# Altium schematic symbol library KeetV2_1.SCHLIB: 76 symbols (part 1 of 2)
Pins are listed as number, name and electrical type; pins without a type are passive.

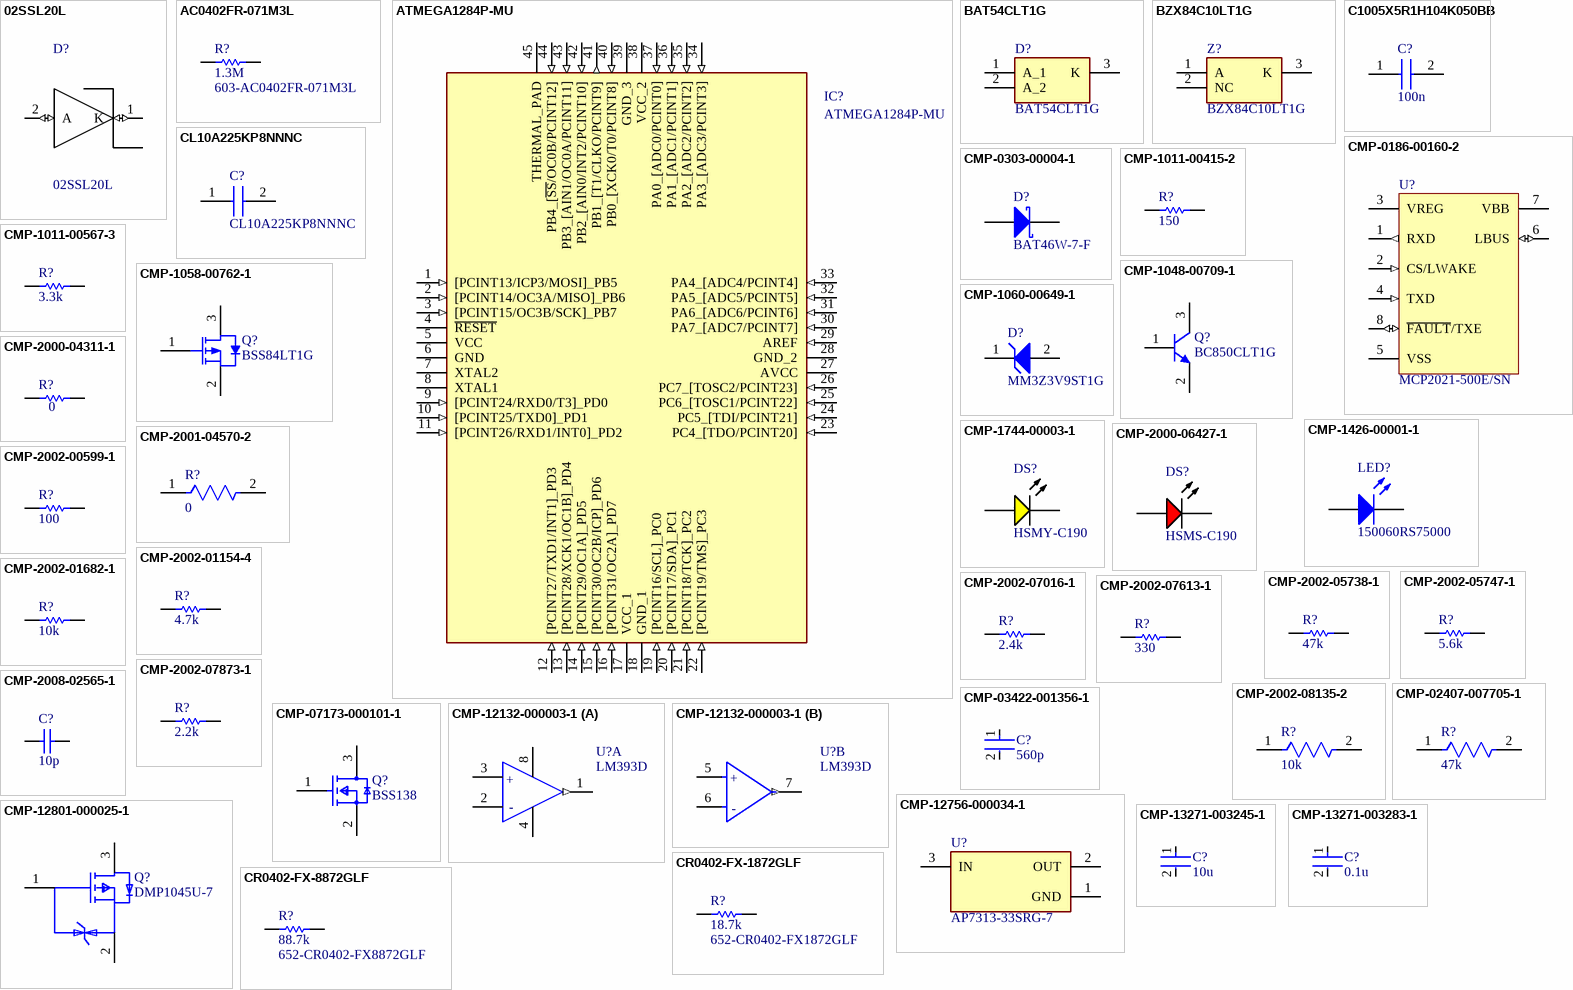
[diagram p0: symbols 02SSL20L to CR0402-FX-8872GLF]

## 02SSL20L
designator D?
SCHOTTKY DIODE https://eu.mouser.com/datasheet/2/345/02ssl20l-02ssl40l-1107799.pdf
footprint SODFL370X100-2N (SODFL, 2-Leads, Body 1,85x3,70mm, IPC Medium Density)
pins: 1 K (io), 2 A (io)

## AC0402FR-071M3L
designator R?, comment 1.3M  Supplier Part Number 1: 603-AC0402FR-071M3L
RES SMD 1.3M OHM 1% 1/16W 0402; Manufacturer: Yageo; Manufacturer Part Number: AC0402FR-071M3L; Resistance: 1.3MR; Max Power Dissipation: 63mW; Temperature Coefficient: 100ppm/°C; Supplier 1: Mouser; RoHS: Yes; Category: Chip SMD Resistors; Stock 1: 49532; Pricing 1: 1=0,10000, 10=0,01700, 50=0,01700, 100=0,00600, 1000=0,00500, 10000=0,00300 (USD); Case/Package: 0402; Min Operating Temperature: -55°C; Max Operating Temperature: 155°C; Packaging: Tape and Reel; Resistor Type: Thick Film; Number of Terminations: 2; Tolerance: 1%; Features: Moisture Resistant,Automotive AEC-Q200; Length: 0.039inch; Width: 0.02inch; Height: 0.015inch; RoHS Compliant: Yes; ComponentLink1URL: http://www.yageo.com/NewPortal/yageodocoutput?fileName=/pdf/R-Chip/PYu-AC_51_RoHS_L_6.pdf&src-supplier=Digi-Key; ComponentLink1Description: http://www.yageo.com/NewPortal/yageodocoutput?fileName=/pdf/R-Chip/PYu-AC_51_RoHS_L_6.pdf&src-supplier=Digi-Key
footprint RESC1005X04N (Chip Resistor, 0402, 2-Leads, Body 1,00x0,50mm, IPC Medium Density)
pins: 1, 2

## ATMEGA1284P-MU
designator IC?
Integrated Circuit; Manufacturer_Name: Microchip; Datasheet Link: http://www.atmel.com/Images/Atmel-8272-8-bit-AVR-microcontroller-ATmega164A_PA-324A_PA-644A_PA-1284_P_datasheet.pdf; Height: 1mm; Manufacturer_Part_Number: ATMEGA1284P-MU; Mouser Part Number: 556-ATMEGA1284P-MU; Mouser Price/Stock: https://www.mouser.co.uk/ProductDetail/Microchip-Technology-Atmel/ATMEGA1284P-MU?qs=K8BHR703ZXga7jaZYyDrdw%3D%3D; Arrow Part Number: ATMEGA1284P-MU; Arrow Price/Stock: https://www.arrow.com/en/products/atmega1284p-mu/microchip-technology
footprint QFN50P700X700X100-45N-D
pins: 1 [PCINT13/ICP3/MOSI]_PB5 (in), 2 [PCINT14/OC3A/MISO]_PB6 (in), 3 [PCINT15/OC3B/SCK]_PB7 (in), 4 ~{RESET}, 5 VCC (power), 6 GND (power), 7 XTAL2, 8 XTAL1, 9 [PCINT24/RXD0/T3]_PD0 (in), 10 [PCINT25/TXD0]_PD1 (in), 11 [PCINT26/RXD1/INT0]_PD2 (in), 12 [PCINT27/TXD1/INT1]_PD3 (in), 13 [PCINT28/XCK1/OC1B]_PD4 (in), 14 [PCINT29/OC1A]_PD5 (in), 15 [PCINT30/OC2B/ICP]_PD6 (in), 16 [PCINT31/OC2A]_PD7 (in), 17 VCC_1 (power), 18 GND_1 (power), 19 [PCINT16/SCL]_PC0 (in), 20 [PCINT17/SDA]_PC1 (in), 21 [PCINT18/TCK]_PC2 (in), 22 [PCINT19/TMS]_PC3 (in), 23 PC4_[TDO/PCINT20] (in), 24 PC5_[TDI/PCINT21] (in), 25 PC6_[TOSC1/PCINT22] (in), 26 PC7_[TOSC2/PCINT23] (in), 27 AVCC (power), 28 GND_2 (power), 29 AREF (in), 30 PA7_[ADC7/PCINT7] (in), 31 PA6_[ADC6/PCINT6] (in), 32 PA5_[ADC5/PCINT5] (in), 33 PA4_[ADC4/PCINT4] (in), 34 PA3_[ADC3/PCINT3] (in), 35 PA2_[ADC2/PCINT2] (in), 36 PA1_[ADC1/PCINT1] (in), 37 PA0_[ADC0/PCINT0] (in), 38 VCC_2 (power), 39 GND_3 (power), 40 PB0_[XCK0/T0/PCINT8] (in), 41 PB1_[T1/CLKO/PCINT9] (out), 42 PB2_[AIN0/INT2/PCINT10] (in), 43 PB3_[AIN1/OC0A/PCINT11] (in), 44 PB4_[~{SS}/OC0B/PCINT12] (in), 45 THERMAL_PAD

## BAT54CLT1G
designator D?
Diode; Manufacturer_Name: ON Semiconductor; Datasheet Link: http://www.onsemi.com/pub/Collateral/BAT54CLT1-D.PDF; Height: 1.11mm; Manufacturer_Part_Number: BAT54CLT1G; Arrow Part Number: BAT54CLT1G; Arrow Price/Stock: https://www.arrow.com/en/products/bat54clt1g/on-semiconductor; Mouser Part Number: 863-BAT54CLT1G; Mouser Price/Stock: https://www.mouser.co.uk/ProductDetail/ON-Semiconductor/BAT54CLT1G?qs=vLkC5FC1VN%252BEteCXar4p7g%3D%3D
footprint SOT96P237X111-3N
pins: 1 A_1, 2 A_2, 3 K

## BZX84C10LT1G
designator Z?
Zener Diode; Manufacturer_Name: ON Semiconductor; Datasheet Link: http://www.onsemi.com/pub/Collateral/BZX84C2V4LT1-D.PDF; Height: 1.11mm; Manufacturer_Part_Number: BZX84C10LT1G; Arrow Part Number: BZX84C10LT1G; Arrow Price/Stock: https://www.arrow.com/en/products/bzx84c10lt1g/on-semiconductor; Mouser Part Number: 863-BZX84C10LT1G; Mouser Price/Stock: https://www.mouser.co.uk/ProductDetail/ON-Semiconductor/BZX84C10LT1G?qs=vNc2DXHODiLQ48WwgnpYlA%3D%3D
footprint SOT96P237X111-3N
pins: 1 A, 2 NC, 3 K

## C1005X5R1H104K050BB
designator C?, comment 100n
Capacitor; Manufacturer_Name: TDK; Manufacturer_Part_Number: C1005X5R1H104K050BB; Datasheet Link: https://product.tdk.com/info/en/catalog/datasheets/mlcc_commercial_midvoltage_en.pdf; Height: 0.55mm; Arrow Part Number: C1005X5R1H104K050BB; Arrow Price/Stock: https://www.arrow.com/en/products/c1005x5r1h104k050bb/tdk; Mouser Part Number: 810-C1005X5R1H104K; Mouser Price/Stock: https://www.mouser.co.uk/ProductDetail/TDK/C1005X5R1H104K050BB?qs=dfay7wIA1uFKSdBVUyKezQ%3D%3D
footprint CAPC1005X55N
pins: 1, 2

## CL10A225KP8NNNC
designator C?
Capacitor; Manufacturer_Name: Samsung Electro-Mechanics; Datasheet Link: http://www.samsungsem.com/kr/support/product-search/mlcc/CL10A225KP8NNNC.jsp; Height: 0.9mm; Manufacturer_Part_Number: CL10A225KP8NNNC; Arrow Part Number: CL10A225KP8NNNC; Arrow Price/Stock: https://www.arrow.com/en/products/cl10a225kp8nnnc/samsung-electro-mechanics; Mouser Part Number: N/A; Mouser Price/Stock: https://www.mouser.co.uk/ProductDetail/Samsung-Electro-Mechanics/CL10A225KP8NNNC?qs=hqM3L16%252Bxldb5UYUGQVB5Q%3D%3D
footprint CAPC1608X90N
pins: 1, 2

## CMP-0186-00160-2
designator U?, comment MCP2021-500E/SN
LIN Transceiver with Voltage Regulator, 8-Pin SOIC, Extended Temperature; Manufacturer: Microchip; ComponentLink2Description: Datasheet; PackageReference: SOIC-SN8; ComponentLink1URL: http://www.microchip.com/; Code_JEDEC: MS-012; ComponentLink3Description: Package Specification; PackageVersion: revBB, Aug-2009; DatasheetVersion: revF, Jan-2012; ComponentLink3URL: http://www.microchip.com/stellent/groups/techpub_sg/documents/packagingspec/en012702.pdf; Code_IPC: SOIC127P600-8; RevisionNote: URLs added. DatasheetVersion updated. Sch pin name & types corrected.; ComponentLink1Description: Manufacturer URL; ComponentLink2URL: http://ww1.microchip.com/downloads/en/DeviceDoc/22018F.pdf; PackageDescription: 8-Lead Plastic Small Outline (SN) - Narrow, 3.90mm Body [SOIC]; Manufacturer Part Number: MCP2021-500E/SN
footprint SOIC-SN8_L (SOIC, 8-Leads, Body 4.9x3.8mm, Pitch 1.27mm, IPC High Density)
footprint SOIC-SN8_M (SOIC, 8-Leads, Body 4.9x3.8mm, Pitch 1.27mm, IPC Low Density)
footprint SOIC-SN8_N (SOIC, 8-Leads, Body 4.9x3.8mm, Pitch 1.27mm, IPC Medium Density)
pins: 1 RXD (out), 2 CS/LWAKE (in), 3 VREG (power), 4 TXD (in), 5 VSS (power), 6 LBUS (io), 7 VBB (power), 8 ~{FAULT}/TXE (io)

## CMP-0303-00004-1
designator D?, comment BAT46W-7-F
Surface Mount Schottky Barrier Diode, 100 V, -55 to 125 degC, 2-Pin SOD123, RoHS, Tape and Reel; Manufacturer: Diodes Inc; Manufacturer: Diodes; IR@1.5 V: 0.3 uA Max.; V(BR)R: 100 V Min.; VF@10 mA: 0.45 V Max.; CT@1 V: 12 pF Typ.; PartNumber: BAT46W-7-F; ComponentLink1URL: http://www.diodes.com/; ComponentLink3URL: http://diodes.com/datasheets/ds30044.pdf; PackageDescription: 2-Pin SMD, Body 2.7 x 1.55 mm, Height 1.45 mm; ComponentLink2Description: Datasheet; ComponentLink3Description: Package Specification; Mounting Technology: Surface Mount; ComponentLink1Description: Manufacturer URL; RoHS: TRUE; Operating Temperature: -55 to 125 degC; Packing: Tape and Reel; ComponentLink2URL: http://diodes.com/datasheets/ds30044.pdf; DatasheetVersion: Rev. 16-2; Manufacturer Part Number: BAT46W-7-F
footprint DIOD-SOD-123-2_V (SOD-123, 2-Leads, Body 2.85x1.7mm (max), Pitch 3.7mm)
pins: 1 A, 2 K

## CMP-1011-00415-2
designator R?, comment 150
Part Number: ERJ-2RKF1500X; Manufacturer: Panasonic; Manufacturer: Vishay Dale; Manufacturer Part Number: CRCW0402150RFKEE; Manufacturer Part Number: CRCW0402150RFKTD; Manufacturer: Bourns; Manufacturer Part Number: CR0402-FX-1500GLF; Manufacturer: Yageo; Manufacturer Part Number: RC0402FR-07150RL; Manufacturer: Vishay; Manufacturer Part Number: CRCW0402150RFKED; Manufacturer Part Number: ERJ-2RKF1500X
footprint RESC1005X40X25NL05T05 (Chip Resistor, 2-Leads, Body 1.00x0.50mm, IPC Medium Density)
footprint RESC1005X40X25ML05T05 (Chip Resistor, 2-Leads, Body 1.00x0.50mm, IPC Low Density)
footprint RESC1005X40X25LL05T05 (Chip Resistor, 2-Leads, Body 1.00x0.50mm, IPC High Density)
pins: 1, 2
1 alternate drawing of the same symbol

## CMP-1011-00567-3
designator R?, comment 3.3k
Chip Resistor, 3.3 KOhm, +/- 1%, 0.1 W, -55 to 155 degC, 0402 (1005 Metric), RoHS, Tape and Reel; Manufacturer: Panasonic; Manufacturer Part Number: ERJ-2RKF3301X; Manufacturer: Vishay Dale; Manufacturer Part Number: CRCW04023K30FKTD; Manufacturer: Vishay; Manufacturer Part Number: CRCW04023K30FKED; Manufacturer: Bourns; Manufacturer Part Number: CR0402-FX-3301GLF; Manufacturer: Yageo; Manufacturer Part Number: RC0402FR-073K3L; Max Power Dissipation: 100mW; Voltage Rating: 50V; Temperature Coefficient: 100ppm/degreesC; Case Code (Metric): 1005; Max Operating Temperature: 155degC; Contact Plating: Tin; Power Rating: 100mW; Datasheet URL: https://industrial.panasonic.com/cdbs/www-data/pdf/RDA0000/AOA0000C283.pdf; Length: 1mm; Tolerance: 1%; REACH SVHC: NoSVHC; Depth: 0.5mm; Composition: ThickFilm; Package Description: 2-Pin Surface Mount Device, Body 1 x 0.5 mm; Case Code (Imperial): 0402; Lead Free: LeadFree; Manufacturer URL: http://www.panasonic.com/; Datasheet Version: 42095.0; Packaging: TapeandReel; Termination: SMD/SMT; RoHSCompliant: true; Height: 0.35mm; Military Standard: Not; Case/Package: 0402; Voltage Rating (DC): 50V; Radiation Hardening: No; Mount: SurfaceMount; Width: 0.02inch; Package Reference: 0402; Resistance: 3.3KOhm; Min Operating Temperature: -55degC; Number of Terminations: 2; Package Quantity: 1; Number of Pins: 2
footprint RESC1005X40X25ML05T05 (Chip Resistor, 2-Leads, Body 1.05x0.55mm, IPC Low Density)
footprint RESC1005X40X25NL05T05 (Chip Resistor, 2-Leads, Body 1.05x0.55mm, IPC Medium Density)
footprint RESC1005X40X25LL05T05 (Chip Resistor, 2-Leads, Body 1.05x0.55mm, IPC High Density)
pins: 1, 2

## CMP-1048-00709-1
designator Q?, comment BC850CLT1G
General Purpose Transistor, NPN Silicon, 3-Pin SOT-23, Pb-Free, Tape and Reel; Manufacturer: On Semiconductor; IC Continuous (A): 0.1; fT Min (MHz): 100; ComponentLink3Description: Package Specification; ComponentLink3URL: http://www.onsemi.cn/pub_link/Collateral/318-08.PDF; PartNumber: BC850CLT1G; DatasheetVersion: Rev. 11; ComponentLink1URL: http://www.onsemi.com/; ComponentLink1Description: Manufacturer URL; Packing: Tape and Reel; PackageDescription: 3-Pin Small Outline Transistor, Body 2.92 x 1.3 mm, Pitch 0.95 mm; ComponentLink2Description: Datasheet; ComponentLink2URL: http://www.onsemi.cn/pub_link/Collateral/BC846ALT1-D.PDF; RoHS: TRUE; PackageVersion: Rev. AP, 11/2009; PackageReference: SOT-23-3-318-08; Polarity: NPN; Mounting Technology: Surface Mount; Manufacturer: ON Semiconductor; Manufacturer Part Number: BC850CLT1G
footprint ONSC-SOT-23-3-318-08_V (SOT23, 3-Leads, Body 2.92x1.3mm, Pitch 0.95mm)
pins: 1 B, 2 E, 3 C

## CMP-1058-00762-1
designator Q?, comment BSS84LT1G
Power MOSFET Single P-Channel, -50 V, 10 Ohm, 3-Pin SOT-23, Pb-Free, Tape and Reel; Manufacturer: On Semiconductor; Ciss Typ (pF): 36; ID Max (A): 0.13; Channel Polarity: P Channel; VGS(th) Max (V): 2; VGS Max (V): 20; V(BR)DSS Min (V): 50; Crss Typ (pF): 6.5; PD Max (W): 0.225; Coss Typ (pF): 17; Configuration: Single; Mounting Technology: Surface Mount; ComponentLink3URL: http://www.onsemi.cn/pub_link/Collateral/318-08.PDF; ComponentLink1Description: Manufacturer URL; Package Type: SOT-23-3; ComponentLink2URL: http://www.onsemi.com/pub_link/Collateral/BSS84LT1-D.PDF; RoHS: Pb-Free; Packing: Tape and Reel; ComponentLink1URL: http://www.onsemi.com/; PackageVersion: Rev. AP, 11/2009; PackageReference: SOT-23-3-318-08; PackageDescription: 3-Pin Small Outline Transistor, Body 2.92 x 1.3 mm, Pitch 0.95 mm; DatasheetVersion: Rev. 8; ComponentLink3Description: Package Specification; PartNumber: BSS84LT1G; ComponentLink2Description: Datasheet; Manufacturer: ON Semiconductor; Manufacturer Part Number: BSS84LT1G
footprint ONSC-SOT-23-3-318-08_V (SOT23, 3-Leads, Body 2.92x1.3mm, Pitch 0.95mm)
pins: 1 G, 2 S, 3 D

## CMP-1060-00649-1
designator D?, comment MM3Z3V9ST1G
Zener Voltage Regulator, 300 mW, Tight Tolerance Portfolio, 2-Pin SOD-323, Pb-Free, Tape and Reel; Manufacturer: On Semiconductor; P Max (W): 0.3; Packing: Tape and Reel; PackageReference: SOD-323-2-477-02; PackageVersion: Rev. H, 03/2007; Mounting Technology: Surface Mount; ComponentLink1Description: Manufacturer URL; ComponentLink1URL: http://www.onsemi.com/; PartNumber: MM3Z3V9ST1G; ComponentLink2URL: http://www.onsemi.cn/pub_link/Collateral/MM3Z2V4ST1-D.PDF; DatasheetVersion: Rev. 21; ComponentLink2Description: Datasheet; RoHS: Pb-Free; ComponentLink3Description: Package Specification; ComponentLink3URL: http://www.onsemi.com/pub_link/Collateral/477-02.PDF.1; PackageDescription: 2-Pin SOD, Body 1.7 x 1.25 mm; Manufacturer: ON Semiconductor; Manufacturer Part Number: MM3Z3V9ST1G
footprint ONSC-SOD-323-2-477-02_V (SOD, 2-Leads, Body 1.7x1.25mm)
pins: 1 K, 2 A

## CMP-1426-00001-1
designator LED?, comment 150060RS75000
SMD mono-color Chip LED, WL-SMCW, Red; Manufacturer: Wuerth Elektronik; Manufacturer: Wurth Electronics; Color: Red; PackageReference: 0603_A; ComponentLink2URL: http://katalog.we-online.com/led/datasheet/150060RS75000.pdf; ComponentLink1URL: http://www.we-online.com; ComponentLink1Description: Manufacturer URL; ComponentLink2Description: Datasheet; PartNumber: 150060RS75000; Manufacturer Part Number: 150060RS75000
footprint 0603_A (Chip LED, 2-Leads, Body 1.6x0.8mm, IPC Medium Density)
pins: 1 K, 2 A

## CMP-1744-00003-1
designator DS?, comment HSMY-C190
LED Uni-Color Yellow, 65 mW, 20 mA, -40 to 85 degC, 2-Pin SMD, RoHS, Tape and Reel; Manufacturer: Broadcom Avago; Tolerance: 1%; Voltage Rating: 50 V; Power Rating: 100 mW; Case\Package: 0603; Resistance: 390 Ohm; Min Operating Temperature: -55 degC; Length: 1.6 mm; ComponentLink3Description: Package Specification; Mount: Surface Mount; PackageReference: HSMX-C190; ComponentLink2Description: Datasheet; DatasheetVersion: Mar-12; Case Code (Metric): 1608; Pins: 2; Package Quantity: 5000; ComponentLink2URL: http://docs.avagotech.com/docs/AV02-0551EN; ComponentLink1Description: Manufacturer URL; RoHSCompliant: true; Packaging: Tape and Reel; PackageDescription: 2-Pin Surface Mount Device, Body 1.6 x 0.8 mm, Height 0.9 mm; REACH SVHC: No SVHC; ComponentLink3URL: http://www.fairchildsemi.com/dwg/MA/MA03D.pdf; Voltage Rating (DC): 50 V; Width: 0.8 mm; ComponentLink1URL: http://www.avagotech.com/; Max Operating Temperature: 155 degC; Case Code (Imperial): 0603; Height: 0.45 mm; Manufacturer Part Number: HSMY-C190
footprint AVAG-HSMX-C190_V (SMD, 2-Leads, Body 1.6x0.8mm, Height 0.9mm)
pins: 1 A, 2 K

## CMP-2000-04311-1
designator R?, comment 0
Part Number: RC0603JR-130RL; Manufacturer: Yageo; Manufacturer Part Number: RC0603JR-130RL
footprint RESC1608X55X25NL10T15 (Chip Resistor, 2-Leads, Body 1.60x0.80mm, IPC Medium Density)
footprint RESC1608X55X25LL10T15 (Chip Resistor, 2-Leads, Body 1.60x0.80mm, IPC High Density)
footprint RESC1608X55X25ML10T15 (Chip Resistor, 2-Leads, Body 1.60x0.80mm, IPC Low Density)
pins: 1, 2
1 alternate drawing of the same symbol

## CMP-2000-06427-1
designator DS?, comment HSMS-C190
LED Uni-Color Red, 52 mW, 20 mA, -40 to 85 degC, 2-Pin SMD, RoHS, Tape and Reel; Manufacturer: Avago; Manufacturer: Broadcom Avago; Reverse Voltage: 5V; Viewing Angle: 170deg; High Brightness: No; Lens Type: ColorlessDiffused; DELETED: Compliant; Product Height (mm): 0.8mm; Dominant Wave Length: 626nm; Number of  Elements: 1; Chip Material: GaP; Lum Intensity: 10mcd; Product Length (mm): 1.6mm; Forward Voltage: 2.6V; Power Dissipation: 52W; Shape Type: Rectangular; Forward Current: 25mA; Peak Wavelength: 630nm; Test Current (It): 20mA; Main Category: ChipLED; Lens Dimensions: 1x0.8x0.5mm; Pin Count: 2; Package Reference: HSMX-C190; Mounting Technology: SurfaceMount; Mounting: SurfaceMount; Datasheet URL: http://docs.avagotech.com/docs/AV02-0551EN; Package Type: ChipLed; Operating Temperature Classification: Industrial; Datasheet Version: 03/2012; Operating Temp Range: -40Cto85C; Emitting Color: Red; Rad Hardened: No; Manufacturer URL: http://www.avagotech.com/; Luminous Intensity: 10mcd; Package Description: 2-Pin Surface Mount Device, Body 1.6 x 0.8 mm, Height 0.9 mm; Type: Uni-Color; Packaging: TapeandReel; Product Depth (mm): 0.8mm; Manufacturer Part Number: HSMS-C190
footprint AVAG-HSMX-C190_V (SMD, 2-Leads, Body 1.6x0.8mm, Height 0.9mm)
pins: 1 A, 2 K

## CMP-2001-04570-2
designator R?, comment 0
RES SMD 0 OHM JUMPER 1/8W 0805; Manufacturer: Yageo; Manufacturer Part Number: RC0805FR-070RL; Resistance: 0Ω; Value: 0Ω; Power Rating: 0.125W; Tolerance: 1%; Voltage Rating: 150V; RoHS: TRUE; Device Class L2: Resistors; Composition: Thick Film; Device Class L1: Passive Components; Height: 0.6mm; Category: Res; Automotive: No; Device Class L3: Chip SMD Resistors; ComponentLink2URL: http://www.yageo.com/documents/recent/PYu-RC_Group_51_RoHS_L_10.pdf; Octopart: https://octopart.com/rc0805fr-070rl-yageo-9293404; Temperature Range High: +155°C; Ipc Land Pattern Name: RESC200125X50; Footprint Url: http://www.yageo.com/exep/pages/download/literatures/PYu-R_Mount_10.pdf; Series: RC_L; Digikey Description: RES SMD 0 OHM JUMPER 1/8W 0805; Temperature Range Low: -55°C; Temperature: -55°C to +155°C; Package: RC0805; ComponentLink2Description: Datasheet; Lead Free: Yes
footprint FP-RC0805-MFG
footprint FP-RC0805-IPC_C
footprint FP-RC0805-IPC_B
footprint FP-RC0805-IPC_A
pins: 1, 2

## CMP-2002-00599-1
designator R?, comment 100
Part Number: ERJ-2RHD1000X; Manufacturer: Panasonic; Manufacturer Part Number: ERJ-2RHD1000X
footprint RESC1005X40X25ML05T05 (Chip Resistor, 2-Leads, Body 1.00x0.50mm, IPC Low Density)
footprint RESC1005X40X25LL05T05 (Chip Resistor, 2-Leads, Body 1.00x0.50mm, IPC High Density)
footprint RESC1005X40X25NL05T05 (Chip Resistor, 2-Leads, Body 1.00x0.50mm, IPC Medium Density)
pins: 1, 2
1 alternate drawing of the same symbol

## CMP-2002-01154-4
designator R?, comment 4.7k
Chip Resistor, 4.7 KOhm, +/- 1%, 0.1 W, -55 to 155 degC, 0402 (1005 Metric), RoHS, Tape and Reel; PartNumber: ERJ-2RKF4701X; Manufacturer: Panasonic; Voltage Rating: 50 V; Case\/Package: 0402; Power Rating: 100 mW; Height: 0.35 mm; Mounting Technology: Surface Mount; REACH SVHC: Yes; Resistance: 4.7 KOhm; Max Operating Temperature: 155 degC; ComponentLink1Description: Manufacturer URL; ComponentLink2Description: Datasheet; Pins: 2; PackageReference: 0402; Tolerance: 1%; Case Code (Imperial): 0402; Length: 1 mm; PackageDescription: 2-Pin Surface Mount Device, Body 1 x 0.5 mm; RoHSCompliant: true; Package Quantity: 1; Radiation Hardening: No; DatasheetVersion: 04/2015; Width: 0.5 mm; Case Code (Metric): 1005; Mount: Surface Mount; ComponentLink1URL: http://www.panasonic.com/; Min Operating Temperature: -55 degC; Packaging: Cut Tape; ComponentLink2URL: http://industrial.panasonic.com/cdbs/www-data/pdf/RDA0000/AOA0000C86.pdf; Manufacturer Part Number: ERJ-2RKF4701X
footprint RESC1005X40X25LL05T05 (Chip Resistor, 2-Leads, Body 1.05x0.55mm, IPC High Density)
footprint RESC1005X40X25ML05T05 (Chip Resistor, 2-Leads, Body 1.05x0.55mm, IPC Low Density)
footprint RESC1005X40X25NL05T05 (Chip Resistor, 2-Leads, Body 1.05x0.55mm, IPC Medium Density)
pins: 1, 2

## CMP-2002-01682-1
designator R?, comment 10k
Manufacturer: Vishay BCcomponents; Part Number: TNPW040210K0DEED; Manufacturer: Vishay Dale; Manufacturer Part Number: TNPW040210K0DEED
footprint RESC1005X40X20NL05T10 (Chip Resistor, 2-Leads, Body 1.00x0.50mm, IPC Medium Density)
footprint RESC1005X40X20LL05T10 (Chip Resistor, 2-Leads, Body 1.00x0.50mm, IPC High Density)
footprint RESC1005X40X20ML05T10 (Chip Resistor, 2-Leads, Body 1.00x0.50mm, IPC Low Density)
pins: 1, 2
1 alternate drawing of the same symbol

## CMP-2002-05738-1
designator R?, comment 47k
Part Number: CRG0402F47K; Manufacturer: TE Connectivity / AMP; Manufacturer: TE Connectivity; Manufacturer Part Number: CRG0402F47K
footprint RESC1005X40X25LL10T10 (Chip Resistor, 2-Leads, Body 1.00x0.50mm, IPC High Density)
footprint RESC1005X40X25NL10T10 (Chip Resistor, 2-Leads, Body 1.00x0.50mm, IPC Medium Density)
footprint RESC1005X40X25ML10T10 (Chip Resistor, 2-Leads, Body 1.00x0.50mm, IPC Low Density)
pins: 1, 2
1 alternate drawing of the same symbol

## CMP-2002-05747-1
designator R?, comment 5.6k
Part Number: CRG0402F5K6; Manufacturer: TE Connectivity / AMP; Manufacturer: TE Connectivity; Manufacturer Part Number: CRG0402F5K6
footprint RESC1005X40X25LL10T10 (Chip Resistor, 2-Leads, Body 1.00x0.50mm, IPC High Density)
footprint RESC1005X40X25ML10T10 (Chip Resistor, 2-Leads, Body 1.00x0.50mm, IPC Low Density)
footprint RESC1005X40X25NL10T10 (Chip Resistor, 2-Leads, Body 1.00x0.50mm, IPC Medium Density)
pins: 1, 2
1 alternate drawing of the same symbol

## CMP-2002-07016-1
designator R?, comment 2.4k
Part Number: RC0402FR-072K4L; Manufacturer: Yageo / Phycomp; Manufacturer: Yageo; Manufacturer Part Number: RC0402FR-072K4L
footprint RESC1005X40X25ML05T10 (Chip Resistor, 2-Leads, Body 1.00x0.50mm, IPC Low Density)
footprint RESC1005X40X25NL05T10 (Chip Resistor, 2-Leads, Body 1.00x0.50mm, IPC Medium Density)
footprint RESC1005X40X25LL05T10 (Chip Resistor, 2-Leads, Body 1.00x0.50mm, IPC High Density)
pins: 1, 2
1 alternate drawing of the same symbol

## CMP-2002-07613-1
designator R?, comment 330
Part Number: RC0402FR-07330RL; Manufacturer: Yageo / Phycomp; Manufacturer: Yageo; Manufacturer Part Number: RC0402FR-07330RL
footprint RESC1005X40X25LL05T10 (Chip Resistor, 2-Leads, Body 1.00x0.50mm, IPC High Density)
footprint RESC1005X40X25ML05T10 (Chip Resistor, 2-Leads, Body 1.00x0.50mm, IPC Low Density)
footprint RESC1005X40X25NL05T10 (Chip Resistor, 2-Leads, Body 1.00x0.50mm, IPC Medium Density)
pins: 1, 2
1 alternate drawing of the same symbol

## CMP-2002-07873-1
designator R?, comment 2.2k
Manufacturer: Yageo; Part Number: RC0402FR-132K2L; Manufacturer Part Number: RC0402FR-132K2L
footprint RESC1005X40X25LL05T10 (Chip Resistor, 2-Leads, Body 1.00x0.50mm, IPC High Density)
footprint RESC1005X40X25NL05T10 (Chip Resistor, 2-Leads, Body 1.00x0.50mm, IPC Medium Density)
footprint RESC1005X40X25ML05T10 (Chip Resistor, 2-Leads, Body 1.00x0.50mm, IPC Low Density)
pins: 1, 2
1 alternate drawing of the same symbol

## CMP-2002-08135-2
designator R?, comment 10k
RES SMD 10K OHM 1% 1/16W 0402; Manufacturer: Vishay; Manufacturer Part Number: CRCW0402-10K0FKED; Power Rating: 63mW; Resistance: 10kR; Voltage Rating: 50V; Temperature Coefficient: 100ppm/°C; Case Code (Metric): 1005; Features: Automotive AEC-Q200; Termination: SMD/SMT; Mount: Surface Mount; Package Quantity: 10; Packaging: Tape and Reel; Case Code (Imperial): 0402; Weight: 2.3E-05oz; Lead Free: Lead Free; Width: 0.02inch; Max Power Dissipation: 63mW; Tolerance: 1%; Number of Terminations: 2; Height: 0.35mm; Number of Pins: 2; Composition: Thick Film; Length: 1mm; Voltage Rating (DC): 50V; Case/Package: 0402; Radiation Hardening: No; Contact Plating: Tin; Depth: 0.5mm; Military Standard: Not; Min Operating Temperature: -55°C; Max Operating Temperature: 155°C
footprint FP-CRCW0402-e3-IPC_B
footprint FP-CRCW0402-e3-IPC_A
footprint FP-CRCW0402-e3-IPC_C
footprint FP-CRCW0402-e3-MFG
pins: 1, 2

## CMP-2008-02565-1
designator C?, comment 10p
Manufacturer: AVX Interconnect / Elco; Part Number: 04025A100JAT2A; Manufacturer: Kyocera AVX; Manufacturer Part Number: 04025A100JAT2A
footprint CAPC1005X56X25ML10T15 (Chip Capacitor, 2-Leads, Body 1.00x0.50mm, IPC Low Density)
footprint CAPC1005X56X25LL10T15 (Chip Capacitor, 2-Leads, Body 1.00x0.50mm, IPC High Density)
footprint CAPC1005X56X25NL10T15 (Chip Capacitor, 2-Leads, Body 1.00x0.50mm, IPC Medium Density)
pins: 1, 2
1 alternate drawing of the same symbol

## CMP-02407-007705-1
designator R?, comment 47k
RES Thick Film, 47kΩ, 1%, 0.063W, 100ppm/°C, 0402; Manufacturer: Vishay; Manufacturer Part Number: CRCW040247K0FKED; Voltage Rating (DC): 50V; Power Rating: 63mW; Resistance: 47kR; Temperature Coefficient: 100ppm/°C; Mount: Surface Mount; Radiation Hardening: No; Case Code (Imperial): 0402; Case Code (Metric): 1005; Contact Plating: Tin; Case/Package: 0402; Package Quantity: 10000; Width: 0.5mm; Lead Free: Lead Free; Packaging: Tape and Reel; Length: 1mm; Max Operating Temperature: 155°C; Min Operating Temperature: -55°C; Tolerance: 1%; Weight: 2.3E-05oz; Working Voltage: 50V; Voltage Rating: 50V; Height: 0.35mm; Depth: 0.5mm; Composition: Thick Film; Number of Terminations: 2; Termination: SMD/SMT; Military Standard: Not
footprint FP-CRCW0402-e3-IPC_C
footprint FP-CRCW0402-e3-IPC_A
footprint FP-CRCW0402-e3-MFG
footprint FP-CRCW0402-e3-IPC_B
pins: 1, 2

## CMP-03422-001356-1
designator C?, comment 560p
CAP CER 560PF 50V X7R 0402; Manufacturer Part Number: CC0402KRX7R9BB561; Manufacturer: YAGEO; Tolerance: 0.1; Automotive Grade: NA; Material: Ceramic; Temperature Coefficient: 30ppm/°C; Automotive: No; ComponentLink2Description: Datasheet; Lead Free: Yes; ComponentLink2URL: http://www.yageo.com/documents/recent/UPY-GP_NP0_16V-to-50V_16.pdf; Temperature Range High: +125°C; Temperature Characteristic: X7R; Temperature Range Low: -55°C; Digikey Description: CAP CER 560PF 50V X7R 0402; Footprint Url: http://www.yageo.com/exep/pages/download/literatures/UPY-C_GEN_24.pdf; RoHS: TRUE; Package: CC0402; Octopart: https://octopart.com/cc0402krx7r9bb561-yageo-192882; Category: Cap; Mouser Description: Multilayer Ceramic Capacitors MLCC - SMD/SMT 560pF 50V X7R 10%; Value: 560 pF; Device Class L1: Passive Components; Height: 0.55mm; Device Class L3: Ceramic Capacitors; Voltage Rating: 50 V; Temperature: -55°C to +125°C; Ipc Land Pattern Name: CAPC10050X50; Capacitance: 560 pF; Device Class L2: Capacitors; Manufacturer: Yageo
footprint FP-CC0402-MFG
footprint FP-CC0402-IPC_C
footprint FP-CC0402-IPC_B
footprint FP-CC0402-IPC_A
pins: 1, 2

## CMP-07173-000101-1
designator Q?, comment BSS138
MOSFET N-CH 50V 220MA SOT-23; Manufacturer: ON Semiconductor / Fairchild; Turn-Off Delay Time: 20ns; Element Configuration: Single; Rds On Max: 3.5R; Gate to Source Voltage (Vgs): 20V; Threshold Voltage: 1.3V; Number of Elements: 1; Power Dissipation: 360mW; Rise Time: 9ns; Turn-On Delay Time: 2.5ns; Input Capacitance: 27pF; On-State Resistance: 6R; Lead Free: Lead Free; Length: 2.92mm; Width: 1.3mm; Drain to Source Breakdown Voltage: 50V; Min Operating Temperature: -55°C; REACH SVHC: No SVHC; Packaging: Tape and Reel; Radiation Hardening: No; Height: 0.93mm; Drain to Source Voltage (Vdss): 50V; Current Rating: 220mA; Voltage Rating (DC): 50V; Weight: 0.03g; Continuous Drain Current (ID): 220mA; Number of Pins: 3; Nominal Vgs: 1.3V; Max Power Dissipation: 360mW; Fall Time: 9ns; Drain to Source Resistance: 3.5R; Contact Plating: Tin; Case/Package: SOT-23; Package Quantity: 1; Dual Supply Voltage: 50V; Mount: Surface Mount; Termination: SMD/SMT; Max Operating Temperature: 150°C; Manufacturer Part Number: BSS138
footprint FP-318-08-IPC_B
footprint FP-318-08-MFG
footprint FP-318-08-IPC_A
footprint FP-318-08-IPC_C
pins: 1 G, 2 S, 3 D

## CMP-12132-000003-1
designator U?, comment LM393D
IC VOLT COMPARATOR DUAL LP 8SOIC; Manufacturer: STMicroelectronics; Response Time: 1.3us; Min Supply Voltage: 2V; Input Offset Voltage: 1mV; Input Bias Current: 0.02uA; Max Dual Supply Voltage: 18V; Output Current Per Channel: 18mA; Max Junction Temp: +150°C; Standoff Height: 0.1mm; Number Of Channels: 2; Nominal Supply Current: 0.45-0.6mA; Voltage Gain: 200V/mV; Max Supply Voltage: 36V; Min Dual Supply Voltage: 1V; Ambient Temperature Range Low: 0°C; ComponentLink2Description: Datasheet; Lead Free: Yes; Device Class L3: Comparators; Device Class L2: Linear ICs; Manufacturer Part Number: LM393D; Digikey Description: IC VOLT COMPARATOR DUAL LP 8SOIC; Category: IC; Octopart: https://octopart.com/lm393d-stmicroelectronics-25832; Package: SO8; RoHS: TRUE; Footprint Url: https://www.st.com/resource/en/datasheet/stm8l001j3.pdf; Temperature Range Low: 0°C; Temperature Range High: +70°C; Mouser Description: Analog Comparators Lo-Pwr Dual Voltage; ComponentLink2URL: https://www.st.com/resource/en/datasheet/lm393.pdf; Automotive: No; Temperature: 0°C to +70°C; Height: 1.75mm; Device Class L1: Integrated Circuits (ICs); Ambient Temperature Range High: +70°C
footprint FP-SO8-MFG
footprint FP-SO8-IPC_C
footprint FP-SO8-IPC_B
footprint FP-SO8-IPC_A
part A pins: 1 Out1 (out), 2 In1- (hiz), 3 In1+ (hiz), 4 Vcc- (power), 8 Vcc+ (power)
part B pins: 5 In2+ (hiz), 6 In2- (hiz), 7 Out2 (out)
part A text: +; -
part B text: +; -

## CMP-12756-000034-1
designator U?, comment AP7313-33SRG-7
IC REG LIN 3.3V 150MA SOT23R-3; Manufacturer: Diodes; Number of Outputs: 1; Accuracy: 2%; Dropout Voltage: 150mV; Max Input Voltage: 6V; Output Type: Fixed; Polarity: Positive; Min Current Limit: 200mA; Min Input Voltage: 2V; Max Power Dissipation: 600mW; Power Dissipation: 540W; Quiescent Current: 75uA; Case/Package: TO-236-3; Weight: 0.000282oz; Lead Free: Lead Free; Width: 1.4mm; REACH SVHC: No SVHC; Height: 1mm; Min Operating Temperature: -40°C; Max Operating Temperature: 85°C; Radiation Hardening: No; Mount: Surface Mount; Packaging: Tape and Reel; Max Output Current: 150mA; Min Output Voltage: 3.3V; Length: 3mm; Number of Regulators: 1; Output Current: 150mA; Package Quantity: 3000; Number of Pins: 3; Output Voltage: 3.3V; Manufacturer Part Number: AP7313-33SRG-7
footprint FP-SOT23-IPC_A
footprint FP-SOT23-IPC_B
footprint FP-SOT23-MFG
footprint FP-SOT23-IPC_C
pins: 1 GND, 2 OUT, 3 IN

## CMP-12801-000025-1
designator Q?, comment DMP1045U-7
MOSFET P-CH 12V 4A SOT23; Manufacturer: Diodes Inc.; Manufacturer: Diodes; Drain To Source Voltage: -12V; Standoff Height: 0.013mm; Max Junction Temp: +150°C; Gate To Source Voltage: 8V; Number Of Channels: 1; Drain To Source Resistance: 26mΩ; Gate Charge At Vgs: 15.8nC @ -4.5V; Power Dissipation: 0.8W; Automotive Grade: NA; Pulse Drain Current: 40A; Turn Off Delay Time: 91.2ns; Depletion Mode: False; Threshold Vgs Min: -0.3V; Input Capacitace At Vds: 1357pF @ -10V; Threshold Vgs Max: -1V; Typ Forward Diode Voltage: -0.6V; Turn On Delay Time: 15.7ns; Rthja Max: 168°C/W; Category: Trans; RoHS: TRUE; Manufacturer Part Number: DMP1045U-7; Automotive: No; Continuous Drain Current: 4A; Package: SOT23; ComponentLink2Description: Datasheet; Lead Free: Yes; Device Class L3: MOSFETs; Device Class L2: Transistors; Digikey Description: MOSFET P-CH 12V 4A SOT23; Drain To Source Breakdown Voltage: -12V; Device Class L1: Discrete Semiconductors; Height: 1.1mm; Temperature Range Low: -55°C; Mouser Description: P-Channel 12 V 31 mOhm Surface Mount Enhancement Mode Mosfet - SOT-23-3; Temperature: -55°C to +150°C; Octopart: https://octopart.com/dmp1045u-7-diodes+inc.-20474459; Ipc Land Pattern Name: SOT92P240X102-3; ComponentLink2URL: https://www.diodes.com/assets/Datasheets/DMP1045U.pdf; Number Of P Channels: 1; Footprint Url: https://www.diodes.com/assets/Package-Files/SOT23.pdf; Temperature Range High: +150°C
footprint FP-SOT23-MFG
footprint FP-SOT23-IPC_C
footprint FP-SOT23-IPC_B
footprint FP-SOT23-IPC_A
pins: 1 G, 2 S, 3 D

## CMP-13271-003245-1
designator C?, comment 10u
Cap Ceramic 10uF 10V X5R ±10% Pad SMD 0603 +85°C T/R; Manufacturer: Samsung; Manufacturer Part Number: CL10A106KP8NNND; Packaging: Tape and Reel; Dielectric: X5R; Min Operating Temperature: -55°C; Lead Free: Lead Free; Height: 0.8mm; Package Quantity: 10000; Voltage Rating (DC): 10V; Mount: Surface Mount; Tolerance: 10%; Width: 0.031inch; Thickness: 0.035inch; Depth: 0.8mm; Max Operating Temperature: 85°C; Capacitance: 10uF; Case/Package: 0603; Length: 1.6mm; Voltage Rating: 10V; Radiation Hardening: No
footprint FP-CL10-IPC_B
footprint FP-CL10-IPC_C
footprint FP-CL10-IPC_A
pins: 1, 2

## CMP-13271-003283-1
designator C?, comment 0.1u
Cap Ceramic 100nF 16V X7R ±5% Pad SMD 0603 +125°C T/R; Manufacturer: Samsung; Manufacturer Part Number: CL10B104JO8NNND; Material: Ceramic; Max Operating Temperature: 125°C; Lead Free: Lead Free; Radiation Hardening: No; Mount: Surface Mount; Voltage Rating: 16V; Height: 0.8mm; Min Operating Temperature: -55°C; Voltage Rating (DC): 16V; Tolerance: 5%; Width: 0.031inch; Packaging: Tape and Reel; Capacitance: 100nF; Depth: 0.8mm; Case/Package: 0603; Package Quantity: 10000; Length: 1.6mm; Thickness: 0.035inch; Dielectric: X7R
footprint FP-CL10-IPC_B
footprint FP-CL10-IPC_A
footprint FP-CL10-IPC_C
pins: 1, 2

## CR0402-FX-1872GLF
designator R?, comment 18.7k  Supplier Part Number 1: 652-CR0402-FX1872GLF
RES SMD 18.7K OHM 1% 1/16W 0402; Manufacturer: Bourns; Manufacturer Part Number: CR0402-FX-1872GLF; Resistance: 18.7kR; Power Rating: 62.5mW; Voltage Rating: 50V; Temperature Coefficient: 100ppm/°C; Max Power Dissipation: 63mW; Supplier 1: Mouser; RoHS: Yes; Category: Chip SMD Resistors; Stock 1: 45190; Pricing 1: 1=0,12000, 10=0,02600, 50=0,02600, 100=0,01500, 1000=0,01000, 10000=0,00600 (USD); Mount: Surface Mount; Case/Package: 0402; Case Code (Imperial): 0402; Case Code (Metric): 1005; Contact Plating: Tin; Min Operating Temperature: -55°C; Max Operating Temperature: 125°C; Packaging: Tape and Reel; Tolerance: 1%; Package Quantity: 10000; Resistor Type: Thick Film; Termination: SMD/SMT; Series: CR0402; Number of Terminations: 2; Length: 1mm; Width: 0.5mm; Height: 0.35mm; Thickness: 356um; Radiation Hardening: No; RoHS Compliant: Yes; ComponentLink1URL: http://components.arrow.com/part/dataview/41911102S5605434N1506?src-supplier=Arrow+Electronics; ComponentLink1Description: http://components.arrow.com/part/dataview/41911102S5605434N1506?src-supplier=Arrow+Electronics; ComponentLink2URL: http://www.onlinecomponents.com/datasheet/cr0402-fx-1872glf.aspx?p=10742862&src-supplier=Onlinecomponents.com; ComponentLink2Description: http://www.onlinecomponents.com/datasheet/cr0402-fx-1872glf.aspx?p=10742862&src-supplier=Onlinecomponents.com; ComponentLink3URL: http://www.bourns.com/pdfs/CR0402.pdf?src-supplier=Avnet; ComponentLink3Description: http://www.bourns.com/pdfs/CR0402.pdf?src-supplier=Avnet; ComponentLink4URL: http://www.bourns.com/data/global/pdfs/CR0402.pdf?src-supplier=Mouser; ComponentLink4Description: http://www.bourns.com/data/global/pdfs/CR0402.pdf?src-supplier=Mouser; ComponentLink5URL: https://www.bourns.com/docs/Product-Datasheets/CR0402.pdf?src-supplier=Digi-Key; ComponentLink5Description: https://www.bourns.com/docs/Product-Datasheets/CR0402.pdf?src-supplier=Digi-Key
footprint RESC1005X04N (Chip Resistor, 0402, 2-Leads, Body 1,00x0,50mm, IPC Medium Density)
pins: 1, 2

## CR0402-FX-8872GLF
designator R?, comment 88.7k  Supplier Part Number 1: 652-CR0402-FX8872GLF
Res Thick Film 0402 88.7K Ohm 1% 0.063W(1/16W) ±100ppm/C Molded SMD Paper Tape on Plastic Reel; Manufacturer: Bourns; Manufacturer Part Number: CR0402-FX-8872GLF; Power Rating: 62.5mW; Resistance: 88.7kR; Voltage Rating: 50V; Temperature Coefficient: 100ppm/°C; Max Power Dissipation: 63mW; Supplier 1: Mouser; RoHS: Yes; Category: Chip SMD Resistors; Stock 1: 54661; Pricing 1: 1=0,10000, 10=0,02200, 50=0,02200, 100=0,01300, 1000=0,00800, 10000=0,00500 (USD); Mount: Surface Mount; Case/Package: 0402; Case Code (Imperial): 0402; Case Code (Metric): 1005; Contact Plating: Tin; Min Operating Temperature: -55°C; Max Operating Temperature: 125°C; Packaging: Tape and Reel; Package Quantity: 10000; Tolerance: 1%; Resistor Type: Thick Film; Termination: SMD/SMT; Series: CR0402; Number of Terminations: 2; Construction: Rectangular; Length: 1mm; Width: 0.5mm; Height: 0.35mm; Depth: 0.5mm; Thickness: 356um; Radiation Hardening: No; Military Standard: Not; RoHS Compliant: Yes; ComponentLink1URL: http://components.arrow.com/part/dataview/42912538S6478999N1506?src-supplier=Arrow+Electronics; ComponentLink1Description: http://components.arrow.com/part/dataview/42912538S6478999N1506?src-supplier=Arrow+Electronics; ComponentLink2URL: http://www.onlinecomponents.com/datasheet/cr0402-fx-8872glf.aspx?p=10743379&src-supplier=Onlinecomponents.com; ComponentLink2Description: http://www.onlinecomponents.com/datasheet/cr0402-fx-8872glf.aspx?p=10743379&src-supplier=Onlinecomponents.com; ComponentLink3URL: http://components.arrow.com/part/dataview/0323_00459309?src-supplier=Arrow+Europe; ComponentLink3Description: http://components.arrow.com/part/dataview/0323_00459309?src-supplier=Arrow+Europe; ComponentLink4URL: http://www.bourns.com/data/global/pdfs/CR0402.pdf?src-supplier=Mouser; ComponentLink4Description: http://www.bourns.com/data/global/pdfs/CR0402.pdf?src-supplier=Mouser; ComponentLink5URL: https://www.bourns.com/docs/Product-Datasheets/CR0402.pdf?src-supplier=Digi-Key; ComponentLink5Description: https://www.bourns.com/docs/Product-Datasheets/CR0402.pdf?src-supplier=Digi-Key; ComponentLink6URL: http://www.bourns.com/pdfs/CR0402.pdf?src-supplier=Avnet; ComponentLink6Description: http://www.bourns.com/pdfs/CR0402.pdf?src-supplier=Avnet
footprint RESC1005X04N (Chip Resistor, 0402, 2-Leads, Body 1,00x0,50mm, IPC Medium Density)
pins: 1, 2

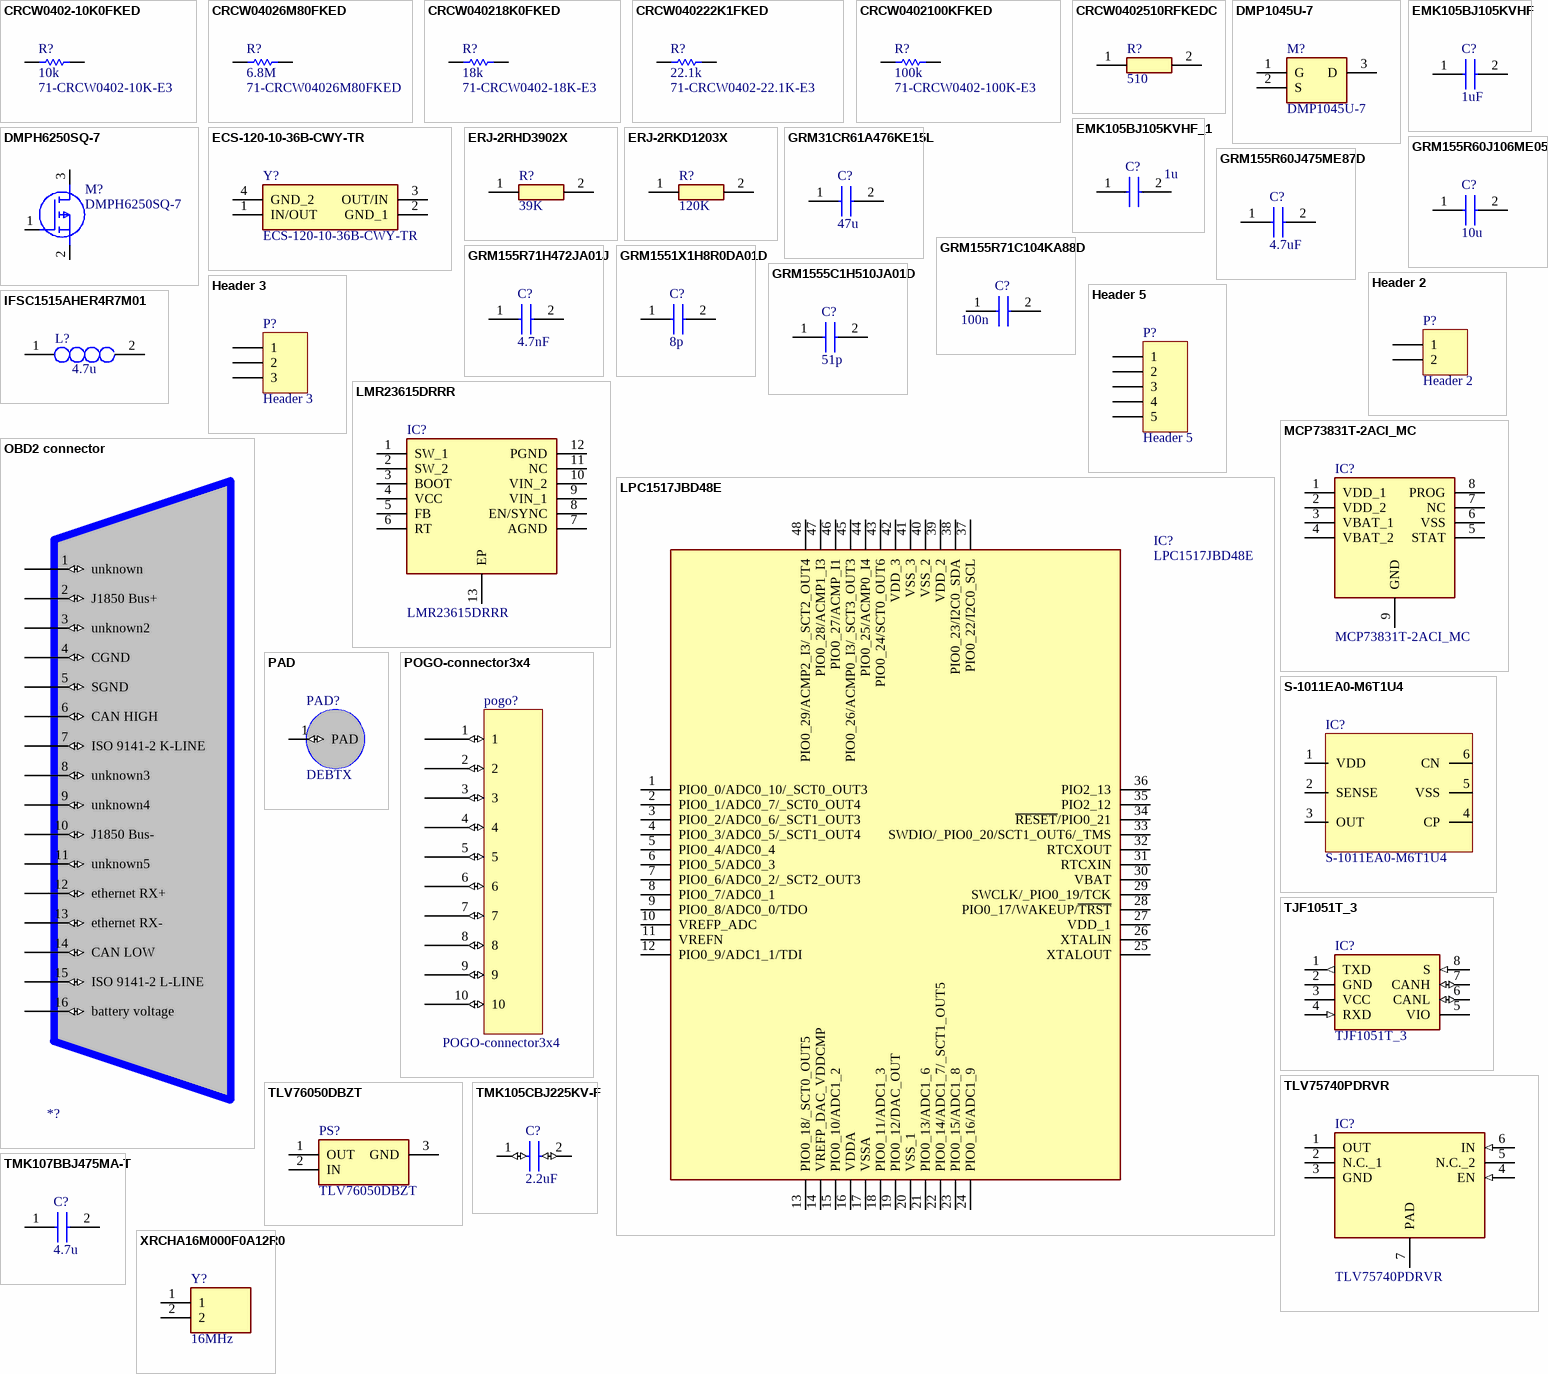
[diagram p1: symbols CRCW0402-10K0FKED to XRCHA16M000F0A12R0]

## CRCW0402-10K0FKED
designator R?, comment 10k  Supplier Part Number 1: 71-CRCW0402-10K-E3
Res Thick Film 0402 10K Ohm 1% 1/16W ±100ppm/°C Molded SMD Paper T/R; Manufacturer: Vishay; Manufacturer Part Number: CRCW0402-10K0FKED; Power Rating: 63mW; Resistance: 10kR; Voltage Rating: 50V; Supplier 1: Mouser; RoHS: Yes; Category: Chip SMD Resistors; Stock 1: 1711719; Pricing 1: 1=0,100000, 10=0,033000, 50=0,033000, 100=0,014000, 1000=0,006000, 10000=0,005000 (USD); Mount: Surface Mount; Case/Package: 0402; Number of Pins: 2; Contact Plating: Tin; Weight: 2.3E-05oz; Case Code (Metric): 1005; Case Code (Imperial): 0402; Min Operating Temperature: -55°C; Max Operating Temperature: 155°C; Tolerance: 1%; Resistor Type: Thick Film; Temperature Coefficient: 100ppm/°C; Termination: SMD/SMT; Package Quantity: 10; Packaging: Tape and Reel; Number of Terminations: 2; Max Power Dissipation: 63mW; Voltage Rating (DC): 50V; Features: Automotive AEC-Q200; Length: 1mm; Width: 0.02inch; Height: 0.35mm; Depth: 0.5mm; Radiation Hardening: No; Lead Free: Lead Free; REACH SVHC: Unknown; Military Standard: Not; ComponentLink1URL: https://datasheet.ciiva.com/11809/0900766b80d98824-11809984.pdf?src-supplier=RSComponents; ComponentLink1Description: https://datasheet.ciiva.com/11809/0900766b80d98824-11809984.pdf?src-supplier=RSComponents; ComponentLink2URL: https://datasheet.ciiva.com/2463/dcrcwe3-2463025.pdf?src-supplier=Digi-Key; ComponentLink2Description: https://datasheet.ciiva.com/2463/dcrcwe3-2463025.pdf?src-supplier=Digi-Key; ComponentLink3URL: https://datasheet.ciiva.com/2463/dcrcwe3-2463026.pdf?src-supplier=Digi-Key; ComponentLink3Description: https://datasheet.ciiva.com/2463/dcrcwe3-2463026.pdf?src-supplier=Digi-Key; ComponentLink4URL: https://datasheet.ciiva.com/2463/dcrcwe3-2463027.pdf?src-supplier=Digi-Key; ComponentLink4Description: https://datasheet.ciiva.com/2463/dcrcwe3-2463027.pdf?src-supplier=Digi-Key; ComponentLink5URL: https://datasheet.ciiva.com/46385/1697337-46385560.pdf?src-supplier=Element14; ComponentLink5Description: https://datasheet.ciiva.com/46385/1697337-46385560.pdf?src-supplier=Element14; ComponentLink6URL: https://datasheet.ciiva.com/3255/dcrcwe3-3255961.pdf?src-supplier=Avnet; ComponentLink6Description: https://datasheet.ciiva.com/3255/dcrcwe3-3255961.pdf?src-supplier=Avnet; ComponentLink7URL: https://datasheet.ciiva.com/3255/dcrcwe3-3255962.pdf?src-supplier=Avnet; ComponentLink7Description: https://datasheet.ciiva.com/3255/dcrcwe3-3255962.pdf?src-supplier=Avnet; ComponentLink8URL: https://datasheet.ciiva.com/5547/dcrcwe3-109170-5547786.pdf?src-supplier=Mouser; ComponentLink8Description: https://datasheet.ciiva.com/5547/dcrcwe3-109170-5547786.pdf?src-supplier=Mouser; ComponentLink9URL: https://datasheet.ciiva.com/26316/fld-crcw-e3-data-en-26316618.pdf?src-supplier=Distrelec; ComponentLink9Description: https://datasheet.ciiva.com/26316/fld-crcw-e3-data-en-26316618.pdf?src-supplier=Distrelec; ComponentLink10URL: https://datasheet.ciiva.com/16208/dcrcwe3-16208525.pdf?src-supplier=Future+Electronics; ComponentLink10Description: https://datasheet.ciiva.com/16208/dcrcwe3-16208525.pdf?src-supplier=Future+Electronics; ComponentLink11URL: https://datasheet.ciiva.com/36856/1720486-36856909.pdf?src-supplier=Element14; ComponentLink11Description: https://datasheet.ciiva.com/36856/1720486-36856909.pdf?src-supplier=Element14
footprint RESC1005X04N (Chip Resistor, 0402, 2-Leads, Body 1,00x0,50mm, IPC Medium Density)
pins: 1, 2

## CRCW04026M80FKED
designator R?, comment 6.8M  Supplier Part Number 1: 71-CRCW04026M80FKED
VISHAY         CRCW04026M80FKED            SMD Chip Resistor, Thick Film, AEC-Q200 CRCW Series, 6.8 Mohm, 50 V, 0402 [1005 Metric], 63 mW; Resistance: 6.8MR; Power Rating: 63mW; Tolerance: 1%; Voltage Rating: 50V; Temperature Coefficient: 100ppm/°C; Supplier 1: Mouser; Manufacturer: Vishay; Manufacturer Part Number: CRCW04026M80FKED; RoHS: Yes; Category: Chip SMD Resistors; Stock 1: 37640; Pricing 1: 1=0,10000, 10=0,03300, 50=0,03300, 100=0,01400, 1000=0,01300, 10000=0,01000 (USD); Case/Package: 0402; Weight: 2.3E-05oz; Case Code (Metric): 1005; Case Code (Imperial): 0402; Min Operating Temperature: -55°C; Max Operating Temperature: 155°C; Package Quantity: 10000; Packaging: Tape and Reel; Resistor Type: Thick Film; Number of Terminations: 2; Termination: SMD/SMT; Max Power Dissipation: 63mW; Voltage Rating (DC): 50V; Features: Automotive AEC-Q200; Series: CRCW; Resistance Tolerance: 1%; Construction: Rectangular; Length: 1mm; Width: 0.02inch; Height: 0.016inch; Depth: 0.5mm; REACH SVHC: Unknown; Military Standard: Not; Lead Free: Lead Free; RoHS Compliant: Yes; ComponentLink1URL: https://datasheet.ciiva.com/2556/dcrcwe3-2556851.pdf?src-supplier=Digi-Key; ComponentLink1Description: https://datasheet.ciiva.com/2556/dcrcwe3-2556851.pdf?src-supplier=Digi-Key; ComponentLink2URL: https://datasheet.ciiva.com/22682/1700796-22682661.pdf?src-supplier=Element14; ComponentLink2Description: https://datasheet.ciiva.com/22682/1700796-22682661.pdf?src-supplier=Element14; ComponentLink3URL: https://datasheet.ciiva.com/5544/dcrcwe3-109170-5544312.pdf?src-supplier=Mouser; ComponentLink3Description: https://datasheet.ciiva.com/5544/dcrcwe3-109170-5544312.pdf?src-supplier=Mouser; ComponentLink4URL: https://datasheet.ciiva.com/7748/1697337-7748637.pdf?src-supplier=Element14; ComponentLink4Description: https://datasheet.ciiva.com/7748/1697337-7748637.pdf?src-supplier=Element14; ComponentLink5URL: https://datasheet.ciiva.com/7748/1697337-7748638.pdf?src-supplier=Element14; ComponentLink5Description: https://datasheet.ciiva.com/7748/1697337-7748638.pdf?src-supplier=Element14; ComponentLink6URL: https://datasheet.ciiva.com/22702/1697337-22702703.pdf?src-supplier=Element14; ComponentLink6Description: https://datasheet.ciiva.com/22702/1697337-22702703.pdf?src-supplier=Element14
footprint RESC1005X04N (Chip Resistor, 0402, 2-Leads, Body 1,00x0,50mm, IPC Medium Density)
pins: 1, 2

## CRCW040218K0FKED
designator R?, comment 18k  Supplier Part Number 1: 71-CRCW0402-18K-E3
RESISTOR, 0402, 18K, 1%, FULL REEL; Product Range:VISHAY - AEC-Q200 CRCW Series; Resistance:18kohm; Power Rating:63mW; Resistance Tolerance:± 1%; Resistor Case Style:0402 [1005 Metric]; Resistor Element Material:Thick Film; ;RoHS Compliant: Yes; Manufacturer: Vishay; Manufacturer Part Number: CRCW040218K0FKED; Resistance: 18kR; Power Rating: 63mW; Voltage Rating: 50V; Temperature Coefficient: 100ppm/°C; Supplier 1: Mouser; RoHS: Yes; Category: Chip SMD Resistors; Stock 1: 36601; Pricing 1: 1=0,10000, 10=0,03300, 50=0,03300, 100=0,01400, 1000=0,00500, 10000=0,00500 (USD); Case/Package: 0402; Number of Pins: 2; Case Code (Imperial): 0402; Case Code (Metric): 1005; Contact Plating: Tin; Weight: 2.3E-05oz; Size Code: 0402; Min Operating Temperature: -55°C; Max Operating Temperature: 155°C; Tolerance: 1%; Packaging: Tape and Reel; Package Quantity: 10000; Resistor Type: Thick Film; Termination: SMD/SMT; Voltage Rating (DC): 50V; Features: Automotive AEC-Q200; Series: CRCW; Max Power Dissipation: 63mW; Number of Terminations: 2; Resistance Tolerance: 1%; Technology: THICK FILM; Construction: Rectangular; Length: 1mm; Width: 0.5mm; Height: 0.35mm; Depth: 0.5mm; Radiation Hardening: No; Lead Free: Lead Free; REACH SVHC: Unknown; Military Standard: Not; RoHS Compliant: Yes; ComponentLink1URL: https://datasheet.ciiva.com/11818/0900766b80d98824-11818010.pdf?src-supplier=RSComponents; ComponentLink1Description: https://datasheet.ciiva.com/11818/0900766b80d98824-11818010.pdf?src-supplier=RSComponents; ComponentLink2URL: https://datasheet.ciiva.com/16881/dcrcwe3-16881016.pdf?src-supplier=Avnet+Europe; ComponentLink2Description: https://datasheet.ciiva.com/16881/dcrcwe3-16881016.pdf?src-supplier=Avnet+Europe; ComponentLink3URL: https://datasheet.ciiva.com/22708/1697337-22708409.pdf?src-supplier=Element14; ComponentLink3Description: https://datasheet.ciiva.com/22708/1697337-22708409.pdf?src-supplier=Element14; ComponentLink4URL: https://datasheet.ciiva.com/7841/1697337-7841482.pdf?src-supplier=Element14; ComponentLink4Description: https://datasheet.ciiva.com/7841/1697337-7841482.pdf?src-supplier=Element14; ComponentLink5URL: https://datasheet.ciiva.com/7841/1697337-7841483.pdf?src-supplier=Element14; ComponentLink5Description: https://datasheet.ciiva.com/7841/1697337-7841483.pdf?src-supplier=Element14; ComponentLink6URL: https://datasheet.ciiva.com/16773/70201119-16773931.pdf?src-supplier=Allied+Electronics; ComponentLink6Description: https://datasheet.ciiva.com/16773/70201119-16773931.pdf?src-supplier=Allied+Electronics; ComponentLink7URL: https://datasheet.ciiva.com/7743/125364-7743469.pdf?src-supplier=Element14; ComponentLink7Description: https://datasheet.ciiva.com/7743/125364-7743469.pdf?src-supplier=Element14; ComponentLink8URL: https://datasheet.ciiva.com/26316/fld-crcw-e3-data-en-26316621.pdf?src-supplier=Distrelec; ComponentLink8Description: https://datasheet.ciiva.com/26316/fld-crcw-e3-data-en-26316621.pdf?src-supplier=Distrelec
footprint RESC1005X04N (Chip Resistor, 0402, 2-Leads, Body 1,00x0,50mm, IPC Medium Density)
pins: 1, 2

## CRCW040222K1FKED
designator R?, comment 22.1k  Supplier Part Number 1: 71-CRCW0402-22.1K-E3
Resistor;  Thick Film;  22.1 Kilohms;  0.063 W;  1%;  SMT;  0402;  TCR 37 ppm/DegC;  TR; Manufacturer: Vishay; Manufacturer Part Number: CRCW040222K1FKED; Resistance: 22.1kR; Temperature Coefficient: 100ppm/°C; Max Power Dissipation: 63mW; Voltage Rating: 50V; Supplier 1: Mouser; RoHS: Yes; Category: Chip SMD Resistors; Stock 1: 53617; Pricing 1: 1=0,10000, 10=0,03300, 50=0,03300, 100=0,01400, 1000=0,00500, 10000=0,00500 (USD); Mount: Surface Mount; Case/Package: 0402; Number of Pins: 2; Case Code (Imperial): 0402; Case Code (Metric): 1005; Contact Plating: Tin; Weight: 2.3E-05oz; Min Operating Temperature: -55°C; Max Operating Temperature: 155°C; Tolerance: 1%; Packaging: Tape and Reel; Resistor Type: Thick Film; Number of Terminations: 2; Package Quantity: 10000; Features: Automotive AEC-Q200; Series: CRCW; Power Rating: 63mW; Termination: SMD/SMT; Voltage Rating (DC): 50V; Working Voltage: 50V; Resistance Tolerance: 1%; Construction: Rectangular; Technology: THICK FILM; Length: 1mm; Width: 0.5mm; Height: 0.35mm; Depth: 0.5mm; Radiation Hardening: No; RoHS Compliant: Yes; Lead Free: Lead Free; REACH SVHC: Unknown; Military Standard: Not; ComponentLink1URL: https://datasheet.ciiva.com/11810/0900766b80d98824-11810184.pdf?src-supplier=RSComponents; ComponentLink1Description: https://datasheet.ciiva.com/11810/0900766b80d98824-11810184.pdf?src-supplier=RSComponents; ComponentLink2URL: https://datasheet.ciiva.com/7673/1697337-7673445.pdf?src-supplier=Element14; ComponentLink2Description: https://datasheet.ciiva.com/7673/1697337-7673445.pdf?src-supplier=Element14; ComponentLink3URL: https://datasheet.ciiva.com/3256/dcrcwe3-3256246.pdf?src-supplier=Avnet; ComponentLink3Description: https://datasheet.ciiva.com/3256/dcrcwe3-3256246.pdf?src-supplier=Avnet; ComponentLink4URL: https://datasheet.ciiva.com/3256/dcrcwe3-3256247.pdf?src-supplier=Avnet; ComponentLink4Description: https://datasheet.ciiva.com/3256/dcrcwe3-3256247.pdf?src-supplier=Avnet; ComponentLink5URL: https://datasheet.ciiva.com/16208/dcrcwe3-16208744.pdf?src-supplier=Future+Electronics; ComponentLink5Description: https://datasheet.ciiva.com/16208/dcrcwe3-16208744.pdf?src-supplier=Future+Electronics; ComponentLink6URL: https://datasheet.ciiva.com/22871/70201119-22871080.pdf?src-supplier=Allied+Electronics; ComponentLink6Description: https://datasheet.ciiva.com/22871/70201119-22871080.pdf?src-supplier=Allied+Electronics; ComponentLink7URL: https://datasheet.ciiva.com/16886/dcrcwe3-16886652.pdf?src-supplier=Avnet+Europe; ComponentLink7Description: https://datasheet.ciiva.com/16886/dcrcwe3-16886652.pdf?src-supplier=Avnet+Europe; ComponentLink8URL: https://datasheet.ciiva.com/7673/1697337-7673245.pdf?src-supplier=Element14; ComponentLink8Description: https://datasheet.ciiva.com/7673/1697337-7673245.pdf?src-supplier=Element14; ComponentLink9URL: https://datasheet.ciiva.com/16771/70201119-16771838.pdf?src-supplier=Allied+Electronics; ComponentLink9Description: https://datasheet.ciiva.com/16771/70201119-16771838.pdf?src-supplier=Allied+Electronics
footprint RESC1005X04N (Chip Resistor, 0402, 2-Leads, Body 1,00x0,50mm, IPC Medium Density)
pins: 1, 2